# Altium footprint library QFP (~0.8mm Pitch, Square) - Corner Index.PcbLib: 29 footprints (part 2 of 2)
Each footprint in its own frame and in the unit in brackets; x right, y up, seen from the top. Pads: shape width x height; smd on the part's side, far side on the other; paste and mask are expansions set on the pad; w line width, h text height; cw(c..) or ccw(c..) is an arc to the next point about the centre after c.
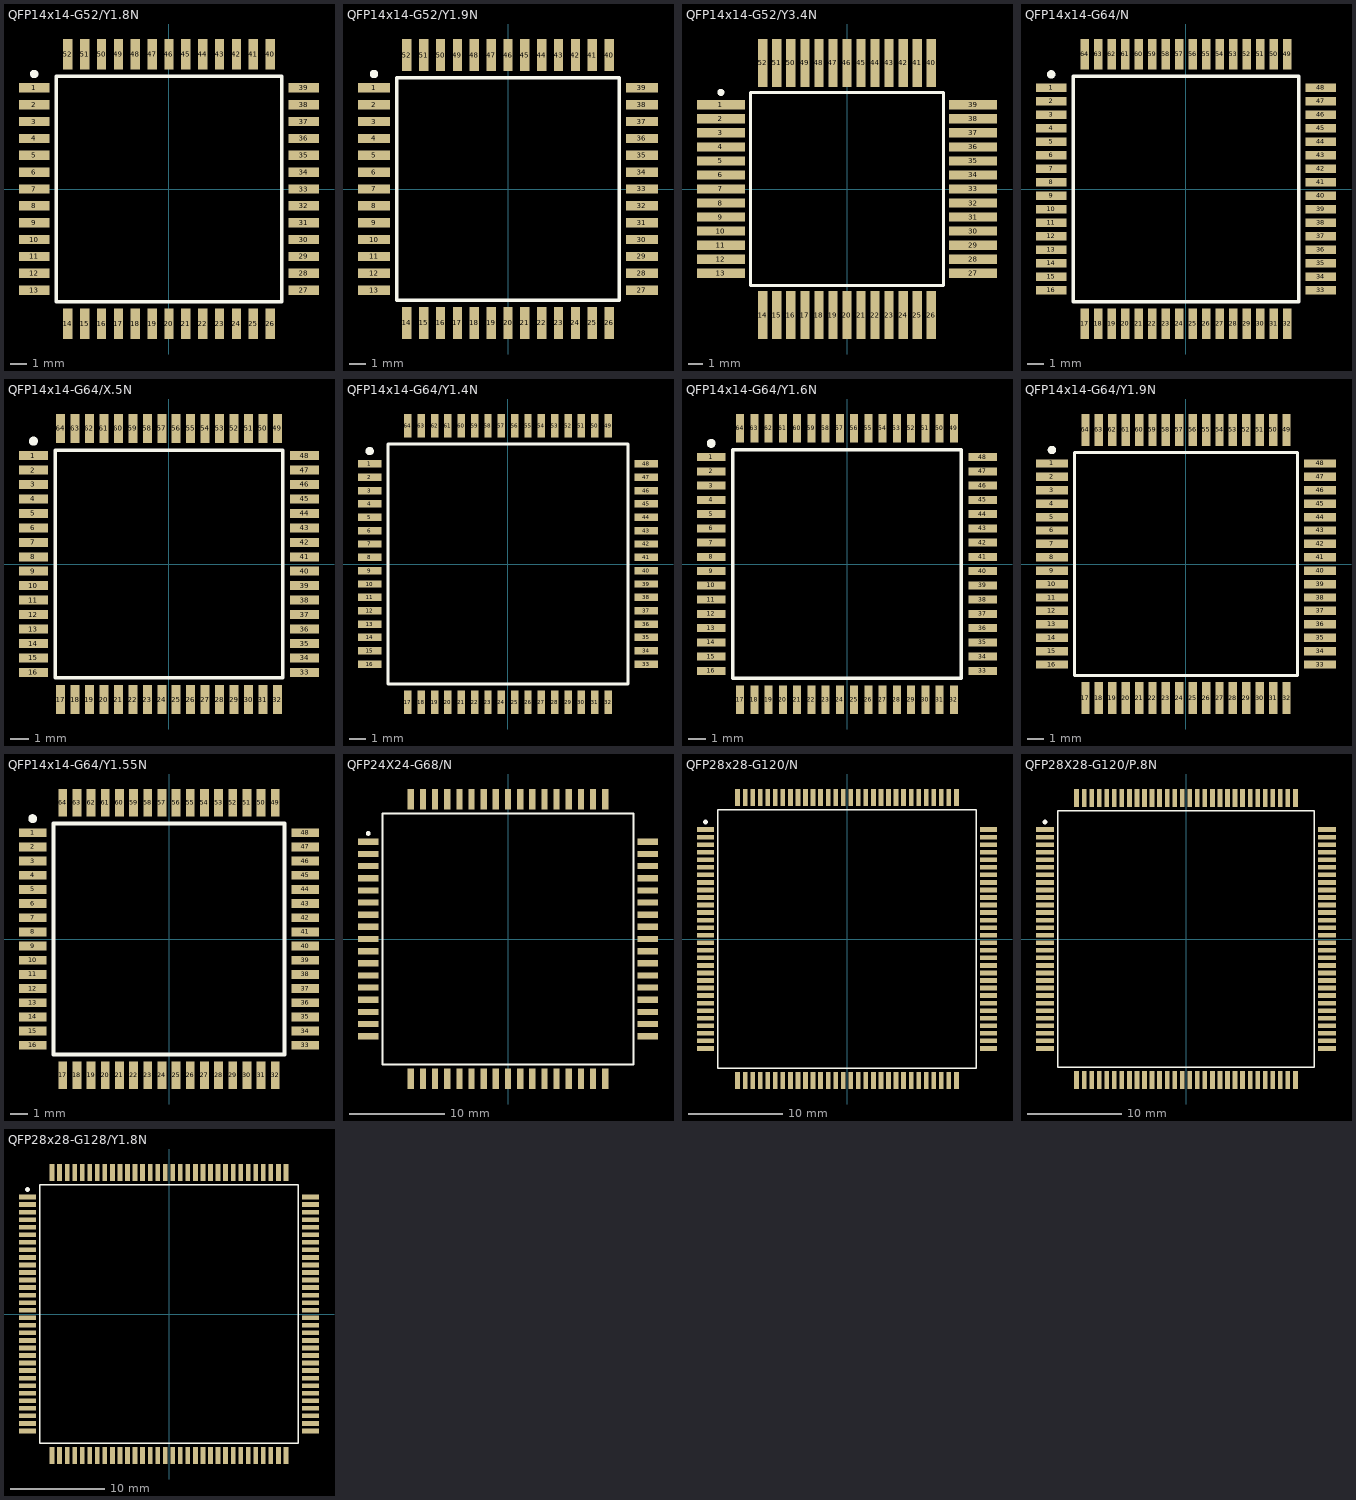
[diagram p1: the footprints below, top view; thin cyan lines are the x and y axes]

## QFP14x14-G52/Y1.8N [mm] "QFP, Ceramic Window; 52 Leads; Body 14 x 14 mm; Pitch 1 mm"
height 3.55
pads (52):
  rect 1.8x0.55 smd: 1(-8,6) 2(-8,5) 3(-8,4) 4(-8,3) 5(-8,2) 6(-8,1) 7(-8,0) 8(-8,-1) 9(-8,-2) 10(-8,-3) 11(-8,-4) 12(-8,-5) 13(-8,-6) 27(8,-6) 28(8,-5) 29(8,-4) 30(8,-3) 31(8,-2) 32(8,-1) 33(8,0) 34(8,1) 35(8,2) 36(8,3) 37(8,4) 38(8,5) 39(8,6)
  rect 0.55x1.8 smd: 14(-6,-8) 15(-5,-8) 16(-4,-8) 17(-3,-8) 18(-2,-8) 19(-1,-8) 20(0,-8) 21(1,-8) 22(2,-8) 23(3,-8) 24(4,-8) 25(5,-8) 26(6,-8) 40(6,8) 41(5,8) 42(4,8) 43(3,8) 44(2,8) 45(1,8) 46(0,8) 47(-1,8) 48(-2,8) 49(-3,8) 50(-4,8) 51(-5,8) 52(-6,8)
Top Overlay:
  circle w0.25: c-8,6.825 r0.125
  lines w0.2: -6.7,-6.7 -6.7,6.7 6.7,6.7 6.7,-6.7 -6.7,-6.7

## QFP14x14-G52/Y1.9N [mm] "QFP; 52 Leads; Body 14 x 14 mm; Pitch 1 mm"
height 3
pads (52):
  rect 1.9x0.55 smd: 1(-7.95,6) 2(-7.95,5) 3(-7.95,4) 4(-7.95,3) 5(-7.95,2) 6(-7.95,1) 7(-7.95,0) 8(-7.95,-1) 9(-7.95,-2) 10(-7.95,-3) 11(-7.95,-4) 12(-7.95,-5) 13(-7.95,-6) 27(7.95,-6) 28(7.95,-5) 29(7.95,-4) 30(7.95,-3) 31(7.95,-2) 32(7.95,-1) 33(7.95,0) 34(7.95,1) 35(7.95,2) 36(7.95,3) 37(7.95,4) 38(7.95,5) 39(7.95,6)
  rect 0.55x1.9 smd: 14(-6,-7.95) 15(-5,-7.95) 16(-4,-7.95) 17(-3,-7.95) 18(-2,-7.95) 19(-1,-7.95) 20(0,-7.95) 21(1,-7.95) 22(2,-7.95) 23(3,-7.95) 24(4,-7.95) 25(5,-7.95) 26(6,-7.95) 40(6,7.95) 41(5,7.95) 42(4,7.95) 43(3,7.95) 44(2,7.95) 45(1,7.95) 46(0,7.95) 47(-1,7.95) 48(-2,7.95) 49(-3,7.95) 50(-4,7.95) 51(-5,7.95) 52(-6,7.95)
Top Overlay:
  circle w0.25: c-7.95,6.825 r0.125
  lines w0.2: -6.6,-6.6 -6.6,6.6 6.6,6.6 6.6,-6.6 -6.6,-6.6

## QFP14x14-G52/Y3.4N [mm] "QFP; 52 Leads; Body 14 x 14 mm; Pitch 1 mm"
height 2.8
pads (52):
  rect 3.4x0.65 smd: 1(-8.975,6) 2(-8.975,5) 3(-8.975,4) 4(-8.975,3) 5(-8.975,2) 6(-8.975,1) 7(-8.975,0) 8(-8.975,-1) 9(-8.975,-2) 10(-8.975,-3) 11(-8.975,-4) 12(-8.975,-5) 13(-8.975,-6) 27(8.975,-6) 28(8.975,-5) 29(8.975,-4) 30(8.975,-3) 31(8.975,-2) 32(8.975,-1) 33(8.975,0) 34(8.975,1) 35(8.975,2) 36(8.975,3) 37(8.975,4) 38(8.975,5) 39(8.975,6)
  rect 0.65x3.4 smd: 14(-6,-8.975) 15(-5,-8.975) 16(-4,-8.975) 17(-3,-8.975) 18(-2,-8.975) 19(-1,-8.975) 20(0,-8.975) 21(1,-8.975) 22(2,-8.975) 23(3,-8.975) 24(4,-8.975) 25(5,-8.975) 26(6,-8.975) 40(6,8.975) 41(5,8.975) 42(4,8.975) 43(3,8.975) 44(2,8.975) 45(1,8.975) 46(0,8.975) 47(-1,8.975) 48(-2,8.975) 49(-3,8.975) 50(-4,8.975) 51(-5,8.975) 52(-6,8.975)
Top Overlay:
  circle w0.25: c-8.975,6.875 r0.125
  lines w0.2: -6.875,-6.875 -6.875,6.875 6.875,6.875 6.875,-6.875 -6.875,-6.875

## QFP14x14-G64/N [mm] "QFP; 64 Leads; Body 14 x 14 mm; Pitch 0.8 mm"
height 2.45
pads (64):
  rect 1.8x0.5 smd: 1(-8,6) 2(-8,5.2) 3(-8,4.4) 4(-8,3.6) 5(-8,2.8) 6(-8,2) 7(-8,1.2) 8(-8,0.4) 9(-8,-0.4) 10(-8,-1.2) 11(-8,-2) 12(-8,-2.8) 13(-8,-3.6) 14(-8,-4.4) 15(-8,-5.2) 16(-8,-6) 33(8,-6) 34(8,-5.2) 35(8,-4.4) 36(8,-3.6) 37(8,-2.8) 38(8,-2) 39(8,-1.2) 40(8,-0.4) 41(8,0.4) 42(8,1.2) 43(8,2) 44(8,2.8) 45(8,3.6) 46(8,4.4) 47(8,5.2) 48(8,6)
  rect 0.5x1.8 smd: 17(-6,-8) 18(-5.2,-8) 19(-4.4,-8) 20(-3.6,-8) 21(-2.8,-8) 22(-2,-8) 23(-1.2,-8) 24(-0.4,-8) 25(0.4,-8) 26(1.2,-8) 27(2,-8) 28(2.8,-8) 29(3.6,-8) 30(4.4,-8) 31(5.2,-8) 32(6,-8) 49(6,8) 50(5.2,8) 51(4.4,8) 52(3.6,8) 53(2.8,8) 54(2,8) 55(1.2,8) 56(0.4,8) 57(-0.4,8) 58(-1.2,8) 59(-2,8) 60(-2.8,8) 61(-3.6,8) 62(-4.4,8) 63(-5.2,8) 64(-6,8)
Top Overlay:
  circle w0.25: c-8,6.8 r0.125
  lines w0.2: -6.7,-6.7 6.7,-6.7 6.7,6.7 -6.7,6.7 -6.7,-6.7

## QFP14x14-G64/X.5N [mm] "QFP; 64 Leads; Body 14 x 14 mm; Pitch 0.8 mm"
height 1.2
pads (64):
  rect 1.6x0.5 smd: 1(-7.5,6) 2(-7.5,5.2) 3(-7.5,4.4) 4(-7.5,3.6) 5(-7.5,2.8) 6(-7.5,2) 7(-7.5,1.2) 8(-7.5,0.4) 9(-7.5,-0.4) 10(-7.5,-1.2) 11(-7.5,-2) 12(-7.5,-2.8) 13(-7.5,-3.6) 14(-7.5,-4.4) 15(-7.5,-5.2) 16(-7.5,-6) 33(7.5,-6) 34(7.5,-5.2) 35(7.5,-4.4) 36(7.5,-3.6) 37(7.5,-2.8) 38(7.5,-2) 39(7.5,-1.2) 40(7.5,-0.4) 41(7.5,0.4) 42(7.5,1.2) 43(7.5,2) 44(7.5,2.8) 45(7.5,3.6) 46(7.5,4.4) 47(7.5,5.2) 48(7.5,6)
  rect 0.5x1.6 smd: 17(-6,-7.5) 18(-5.2,-7.5) 19(-4.4,-7.5) 20(-3.6,-7.5) 21(-2.8,-7.5) 22(-2,-7.5) 23(-1.2,-7.5) 24(-0.4,-7.5) 25(0.4,-7.5) 26(1.2,-7.5) 27(2,-7.5) 28(2.8,-7.5) 29(3.6,-7.5) 30(4.4,-7.5) 31(5.2,-7.5) 32(6,-7.5) 49(6,7.5) 50(5.2,7.5) 51(4.4,7.5) 52(3.6,7.5) 53(2.8,7.5) 54(2,7.5) 55(1.2,7.5) 56(0.4,7.5) 57(-0.4,7.5) 58(-1.2,7.5) 59(-2,7.5) 60(-2.8,7.5) 61(-3.6,7.5) 62(-4.4,7.5) 63(-5.2,7.5) 64(-6,7.5)
Top Overlay:
  circle w0.25: c-7.5,6.8 r0.125
  lines w0.2: -6.3,-6.3 6.3,-6.3 6.3,6.3 -6.3,6.3 -6.3,-6.3

## QFP14x14-G64/Y1.4N [mm] "Ceramic QFP, Cavity Up; 64 Leads; Body 14 x 14 mm"
height 3
pads (64):
  rect 1.4x0.45 smd: 1(-8.3,6) 2(-8.3,5.2) 3(-8.3,4.4) 4(-8.3,3.6) 5(-8.3,2.8) 6(-8.3,2) 7(-8.3,1.2) 8(-8.3,0.4) 9(-8.3,-0.4) 10(-8.3,-1.2) 11(-8.3,-2) 12(-8.3,-2.8) 13(-8.3,-3.6) 14(-8.3,-4.4) 15(-8.3,-5.2) 16(-8.3,-6) 33(8.3,-6) 34(8.3,-5.2) 35(8.3,-4.4) 36(8.3,-3.6) 37(8.3,-2.8) 38(8.3,-2) 39(8.3,-1.2) 40(8.3,-0.4) 41(8.3,0.4) 42(8.3,1.2) 43(8.3,2) 44(8.3,2.8) 45(8.3,3.6) 46(8.3,4.4) 47(8.3,5.2) 48(8.3,6)
  rect 0.45x1.4 smd: 17(-6,-8.3) 18(-5.2,-8.3) 19(-4.4,-8.3) 20(-3.6,-8.3) 21(-2.8,-8.3) 22(-2,-8.3) 23(-1.2,-8.3) 24(-0.4,-8.3) 25(0.4,-8.3) 26(1.2,-8.3) 27(2,-8.3) 28(2.8,-8.3) 29(3.6,-8.3) 30(4.4,-8.3) 31(5.2,-8.3) 32(6,-8.3) 49(6,8.3) 50(5.2,8.3) 51(4.4,8.3) 52(3.6,8.3) 53(2.8,8.3) 54(2,8.3) 55(1.2,8.3) 56(0.4,8.3) 57(-0.4,8.3) 58(-1.2,8.3) 59(-2,8.3) 60(-2.8,8.3) 61(-3.6,8.3) 62(-4.4,8.3) 63(-5.2,8.3) 64(-6,8.3)
Top Overlay:
  circle w0.25: c-8.3,6.775 r0.125
  lines w0.2: -7.2,-7.2 7.2,-7.2 7.2,7.2 -7.2,7.2 -7.2,-7.2

## QFP14x14-G64/Y1.6N [mm] "QFP, Plastic; 64 Leads; Body 14 x 14 mm; Pitch 0.8 mm"
height 1.6
pads (64):
  rect 1.6x0.45 smd: 1(-7.625,6) 2(-7.625,5.2) 3(-7.625,4.4) 4(-7.625,3.6) 5(-7.625,2.8) 6(-7.625,2) 7(-7.625,1.2) 8(-7.625,0.4) 9(-7.625,-0.4) 10(-7.625,-1.2) 11(-7.625,-2) 12(-7.625,-2.8) 13(-7.625,-3.6) 14(-7.625,-4.4) 15(-7.625,-5.2) 16(-7.625,-6) 33(7.625,-6) 34(7.625,-5.2) 35(7.625,-4.4) 36(7.625,-3.6) 37(7.625,-2.8) 38(7.625,-2) 39(7.625,-1.2) 40(7.625,-0.4) 41(7.625,0.4) 42(7.625,1.2) 43(7.625,2) 44(7.625,2.8) 45(7.625,3.6) 46(7.625,4.4) 47(7.625,5.2) 48(7.625,6)
  rect 0.45x1.6 smd: 17(-6,-7.625) 18(-5.2,-7.625) 19(-4.4,-7.625) 20(-3.6,-7.625) 21(-2.8,-7.625) 22(-2,-7.625) 23(-1.2,-7.625) 24(-0.4,-7.625) 25(0.4,-7.625) 26(1.2,-7.625) 27(2,-7.625) 28(2.8,-7.625) 29(3.6,-7.625) 30(4.4,-7.625) 31(5.2,-7.625) 32(6,-7.625) 49(6,7.625) 50(5.2,7.625) 51(4.4,7.625) 52(3.6,7.625) 53(2.8,7.625) 54(2,7.625) 55(1.2,7.625) 56(0.4,7.625) 57(-0.4,7.625) 58(-1.2,7.625) 59(-2,7.625) 60(-2.8,7.625) 61(-3.6,7.625) 62(-4.4,7.625) 63(-5.2,7.625) 64(-6,7.625)
Top Overlay:
  circle w0.25: c-7.625,6.775 r0.125
  lines w0.2: -6.425,-6.425 6.425,-6.425 6.425,6.425 -6.425,6.425 -6.425,-6.425

## QFP14x14-G64/Y1.9N [mm] "QFP; 64 Leads; Body 14 x 14 mm; Pitch 0.8 mm"
height 3.15
pads (64):
  rect 1.9x0.5 smd: 1(-8,6) 2(-8,5.2) 3(-8,4.4) 4(-8,3.6) 5(-8,2.8) 6(-8,2) 7(-8,1.2) 8(-8,0.4) 9(-8,-0.4) 10(-8,-1.2) 11(-8,-2) 12(-8,-2.8) 13(-8,-3.6) 14(-8,-4.4) 15(-8,-5.2) 16(-8,-6) 33(8,-6) 34(8,-5.2) 35(8,-4.4) 36(8,-3.6) 37(8,-2.8) 38(8,-2) 39(8,-1.2) 40(8,-0.4) 41(8,0.4) 42(8,1.2) 43(8,2) 44(8,2.8) 45(8,3.6) 46(8,4.4) 47(8,5.2) 48(8,6)
  rect 0.5x1.9 smd: 17(-6,-8) 18(-5.2,-8) 19(-4.4,-8) 20(-3.6,-8) 21(-2.8,-8) 22(-2,-8) 23(-1.2,-8) 24(-0.4,-8) 25(0.4,-8) 26(1.2,-8) 27(2,-8) 28(2.8,-8) 29(3.6,-8) 30(4.4,-8) 31(5.2,-8) 32(6,-8) 49(6,8) 50(5.2,8) 51(4.4,8) 52(3.6,8) 53(2.8,8) 54(2,8) 55(1.2,8) 56(0.4,8) 57(-0.4,8) 58(-1.2,8) 59(-2,8) 60(-2.8,8) 61(-3.6,8) 62(-4.4,8) 63(-5.2,8) 64(-6,8)
Top Overlay:
  circle w0.25: c-8,6.8 r0.125
  lines w0.2: -6.65,-6.65 6.65,-6.65 6.65,6.65 -6.65,6.65 -6.65,-6.65

## QFP14x14-G64/Y1.55N [mm] "QFP; 64 Leads; Body 14 x 14 mm; Pitch 0.8 mm"
height 1.6
pads (64):
  rect 1.55x0.5 smd: 1(-7.7,6) 2(-7.7,5.2) 3(-7.7,4.4) 4(-7.7,3.6) 5(-7.7,2.8) 6(-7.7,2) 7(-7.7,1.2) 8(-7.7,0.4) 9(-7.7,-0.4) 10(-7.7,-1.2) 11(-7.7,-2) 12(-7.7,-2.8) 13(-7.7,-3.6) 14(-7.7,-4.4) 15(-7.7,-5.2) 16(-7.7,-6) 33(7.7,-6) 34(7.7,-5.2) 35(7.7,-4.4) 36(7.7,-3.6) 37(7.7,-2.8) 38(7.7,-2) 39(7.7,-1.2) 40(7.7,-0.4) 41(7.7,0.4) 42(7.7,1.2) 43(7.7,2) 44(7.7,2.8) 45(7.7,3.6) 46(7.7,4.4) 47(7.7,5.2) 48(7.7,6)
  rect 0.5x1.55 smd: 17(-6,-7.7) 18(-5.2,-7.7) 19(-4.4,-7.7) 20(-3.6,-7.7) 21(-2.8,-7.7) 22(-2,-7.7) 23(-1.2,-7.7) 24(-0.4,-7.7) 25(0.4,-7.7) 26(1.2,-7.7) 27(2,-7.7) 28(2.8,-7.7) 29(3.6,-7.7) 30(4.4,-7.7) 31(5.2,-7.7) 32(6,-7.7) 49(6,7.7) 50(5.2,7.7) 51(4.4,7.7) 52(3.6,7.7) 53(2.8,7.7) 54(2,7.7) 55(1.2,7.7) 56(0.4,7.7) 57(-0.4,7.7) 58(-1.2,7.7) 59(-2,7.7) 60(-2.8,7.7) 61(-3.6,7.7) 62(-4.4,7.7) 63(-5.2,7.7) 64(-6,7.7)
Top Overlay:
  circle w0.25: c-7.7,6.8 r0.125
  lines w0.2: -6.525,-6.525 6.525,-6.525 6.525,6.525 -6.525,6.525 -6.525,-6.525

## QFP24X24-G68/N [mm] "QFP; 68 Leads; Body 24 x 24 mm; Pitch 1.27 mm"
height 4.81
pads (68):
  rect 2.15x0.65 smd: 1(-14.6,10.16) 2(-14.6,8.89) 3(-14.6,7.62) 4(-14.6,6.35) 5(-14.6,5.08) 6(-14.6,3.81) 7(-14.6,2.54) 8(-14.6,1.27) 9(-14.6,0) 10(-14.6,-1.27) 11(-14.6,-2.54) 12(-14.6,-3.81) 13(-14.6,-5.08) 14(-14.6,-6.35) 15(-14.6,-7.62) 16(-14.6,-8.89) 17(-14.6,-10.16) 35(14.6,-10.16) 36(14.6,-8.89) 37(14.6,-7.62) 38(14.6,-6.35) 39(14.6,-5.08) 40(14.6,-3.81) 41(14.6,-2.54) 42(14.6,-1.27) 43(14.6,0) 44(14.6,1.27) 45(14.6,2.54) 46(14.6,3.81) 47(14.6,5.08) 48(14.6,6.35) 49(14.6,7.62) 50(14.6,8.89) 51(14.6,10.16)
  rect 0.65x2.15 smd: 18(-10.16,-14.6) 19(-8.89,-14.6) 20(-7.62,-14.6) 21(-6.35,-14.6) 22(-5.08,-14.6) 23(-3.81,-14.6) 24(-2.54,-14.6) 25(-1.27,-14.6) 26(0,-14.6) 27(1.27,-14.6) 28(2.54,-14.6) 29(3.81,-14.6) 30(5.08,-14.6) 31(6.35,-14.6) 32(7.62,-14.6) 33(8.89,-14.6) 34(10.16,-14.6) 52(10.16,14.6) 53(8.89,14.6) 54(7.62,14.6) 55(6.35,14.6) 56(5.08,14.6) 57(3.81,14.6) 58(2.54,14.6) 59(1.27,14.6) 60(0,14.6) 61(-1.27,14.6) 62(-2.54,14.6) 63(-3.81,14.6) 64(-5.08,14.6) 65(-6.35,14.6) 66(-7.62,14.6) 67(-8.89,14.6) 68(-10.16,14.6)
Top Overlay:
  circle w0.25: c-14.6,11.035 r0.125
  lines w0.2: -13.125,-13.125 13.125,-13.125 13.125,13.125 -13.125,13.125 -13.125,-13.125

## QFP28x28-G120/N [mm] "QFP; 120 Leads; Body 28 x 28 mm; Pitch 0.8 mm"
height 4.07
pads (120):
  rect 1.8x0.5 smd: 1(-15,11.6) 2(-15,10.8) 3(-15,10) 4(-15,9.2) 5(-15,8.4) 6(-15,7.6) 7(-15,6.8) 8(-15,6) 9(-15,5.2) 10(-15,4.4) 11(-15,3.6) 12(-15,2.8) 13(-15,2) 14(-15,1.2) 15(-15,0.4) 16(-15,-0.4) 17(-15,-1.2) 18(-15,-2) 19(-15,-2.8) 20(-15,-3.6) 21(-15,-4.4) 22(-15,-5.2) 23(-15,-6) 24(-15,-6.8) 25(-15,-7.6) 26(-15,-8.4) 27(-15,-9.2) 28(-15,-10) 29(-15,-10.8) 30(-15,-11.6) 61(15,-11.6) 62(15,-10.8) 63(15,-10) 64(15,-9.2) 65(15,-8.4) 66(15,-7.6) 67(15,-6.8) 68(15,-6) 69(15,-5.2) 70(15,-4.4) 71(15,-3.6) 72(15,-2.8) 73(15,-2) 74(15,-1.2) 75(15,-0.4) 76(15,0.4) 77(15,1.2) 78(15,2) 79(15,2.8) 80(15,3.6) 81(15,4.4) 82(15,5.2) 83(15,6) 84(15,6.8) 85(15,7.6) 86(15,8.4) 87(15,9.2) 88(15,10) 89(15,10.8) 90(15,11.6)
  rect 0.5x1.8 smd: 31(-11.6,-15) 32(-10.8,-15) 33(-10,-15) 34(-9.2,-15) 35(-8.4,-15) 36(-7.6,-15) 37(-6.8,-15) 38(-6,-15) 39(-5.2,-15) 40(-4.4,-15) 41(-3.6,-15) 42(-2.8,-15) 43(-2,-15) 44(-1.2,-15) 45(-0.4,-15) 46(0.4,-15) 47(1.2,-15) 48(2,-15) 49(2.8,-15) 50(3.6,-15) 51(4.4,-15) 52(5.2,-15) 53(6,-15) 54(6.8,-15) 55(7.6,-15) 56(8.4,-15) 57(9.2,-15) 58(10,-15) 59(10.8,-15) 60(11.6,-15) 91(11.6,15) 92(10.8,15) 93(10,15) 94(9.2,15) 95(8.4,15) 96(7.6,15) 97(6.8,15) 98(6,15) 99(5.2,15) 100(4.4,15) 101(3.6,15) 102(2.8,15) 103(2,15) 104(1.2,15) 105(0.4,15) 106(-0.4,15) 107(-1.2,15) 108(-2,15) 109(-2.8,15) 110(-3.6,15) 111(-4.4,15) 112(-5.2,15) 113(-6,15) 114(-6.8,15) 115(-7.6,15) 116(-8.4,15) 117(-9.2,15) 118(-10,15) 119(-10.8,15) 120(-11.6,15)
Top Overlay:
  circle w0.25: c-15,12.4 r0.125
  lines w0.2: -13.7,-13.7 13.7,-13.7 13.7,13.7 -13.7,13.7 -13.7,-13.7

## QFP28X28-G120/P.8N [mm]
pads (120):
  rect 1.9x0.5 smd: 1(-14.95,11.6) 2(-14.95,10.8) 3(-14.95,10) 4(-14.95,9.2) 5(-14.95,8.4) 6(-14.95,7.6) 7(-14.95,6.8) 8(-14.95,6) 9(-14.95,5.2) 10(-14.95,4.4) 11(-14.95,3.6) 12(-14.95,2.8) 13(-14.95,2) 14(-14.95,1.2) 15(-14.95,0.4) 16(-14.95,-0.4) 17(-14.95,-1.2) 18(-14.95,-2) 19(-14.95,-2.8) 20(-14.95,-3.6) 21(-14.95,-4.4) 22(-14.95,-5.2) 23(-14.95,-6) 24(-14.95,-6.8) 25(-14.95,-7.6) 26(-14.95,-8.4) 27(-14.95,-9.2) 28(-14.95,-10) 29(-14.95,-10.8) 30(-14.95,-11.6) 61(14.95,-11.6) 62(14.95,-10.8) 63(14.95,-10) 64(14.95,-9.2) 65(14.95,-8.4) 66(14.95,-7.6) 67(14.95,-6.8) 68(14.95,-6) 69(14.95,-5.2) 70(14.95,-4.4) 71(14.95,-3.6) 72(14.95,-2.8) 73(14.95,-2) 74(14.95,-1.2) 75(14.95,-0.4) 76(14.95,0.4) 77(14.95,1.2) 78(14.95,2) 79(14.95,2.8) 80(14.95,3.6) 81(14.95,4.4) 82(14.95,5.2) 83(14.95,6) 84(14.95,6.8) 85(14.95,7.6) 86(14.95,8.4) 87(14.95,9.2) 88(14.95,10) 89(14.95,10.8) 90(14.95,11.6)
  rect 0.5x1.9 smd: 31(-11.6,-14.95) 32(-10.8,-14.95) 33(-10,-14.95) 34(-9.2,-14.95) 35(-8.4,-14.95) 36(-7.6,-14.95) 37(-6.8,-14.95) 38(-6,-14.95) 39(-5.2,-14.95) 40(-4.4,-14.95) 41(-3.6,-14.95) 42(-2.8,-14.95) 43(-2,-14.95) 44(-1.2,-14.95) 45(-0.4,-14.95) 46(0.4,-14.95) 47(1.2,-14.95) 48(2,-14.95) 49(2.8,-14.95) 50(3.6,-14.95) 51(4.4,-14.95) 52(5.2,-14.95) 53(6,-14.95) 54(6.8,-14.95) 55(7.6,-14.95) 56(8.4,-14.95) 57(9.2,-14.95) 58(10,-14.95) 59(10.8,-14.95) 60(11.6,-14.95) 91(11.6,14.95) 92(10.8,14.95) 93(10,14.95) 94(9.2,14.95) 95(8.4,14.95) 96(7.6,14.95) 97(6.8,14.95) 98(6,14.95) 99(5.2,14.95) 100(4.4,14.95) 101(3.6,14.95) 102(2.8,14.95) 103(2,14.95) 104(1.2,14.95) 105(0.4,14.95) 106(-0.4,14.95) 107(-1.2,14.95) 108(-2,14.95) 109(-2.8,14.95) 110(-3.6,14.95) 111(-4.4,14.95) 112(-5.2,14.95) 113(-6,14.95) 114(-6.8,14.95) 115(-7.6,14.95) 116(-8.4,14.95) 117(-9.2,14.95) 118(-10,14.95) 119(-10.8,14.95) 120(-11.6,14.95)
Top Overlay:
  circle w0.25: c-14.95,12.4 r0.125
  lines w0.2: -13.6,-13.6 13.6,-13.6 13.6,13.6 -13.6,13.6 -13.6,-13.6

## QFP28x28-G128/Y1.8N [mm] "QFP; 128 Leads; Body 28 x 28 mm; Pitch 0.8 mm"
height 4.07
pads (128):
  rect 1.8x0.5 smd: 1(-15,12.4) 2(-15,11.6) 3(-15,10.8) 4(-15,10) 5(-15,9.2) 6(-15,8.4) 7(-15,7.6) 8(-15,6.8) 9(-15,6) 10(-15,5.2) 11(-15,4.4) 12(-15,3.6) 13(-15,2.8) 14(-15,2) 15(-15,1.2) 16(-15,0.4) 17(-15,-0.4) 18(-15,-1.2) 19(-15,-2) 20(-15,-2.8) 21(-15,-3.6) 22(-15,-4.4) 23(-15,-5.2) 24(-15,-6) 25(-15,-6.8) 26(-15,-7.6) 27(-15,-8.4) 28(-15,-9.2) 29(-15,-10) 30(-15,-10.8) 31(-15,-11.6) 32(-15,-12.4) 65(15,-12.4) 66(15,-11.6) 67(15,-10.8) 68(15,-10) 69(15,-9.2) 70(15,-8.4) 71(15,-7.6) 72(15,-6.8) 73(15,-6) 74(15,-5.2) 75(15,-4.4) 76(15,-3.6) 77(15,-2.8) 78(15,-2) 79(15,-1.2) 80(15,-0.4) 81(15,0.4) 82(15,1.2) 83(15,2) 84(15,2.8) 85(15,3.6) 86(15,4.4) 87(15,5.2) 88(15,6) 89(15,6.8) 90(15,7.6) 91(15,8.4) 92(15,9.2) 93(15,10) 94(15,10.8) 95(15,11.6) 96(15,12.4)
  rect 0.5x1.8 smd: 33(-12.4,-15) 34(-11.6,-15) 35(-10.8,-15) 36(-10,-15) 37(-9.2,-15) 38(-8.4,-15) 39(-7.6,-15) 40(-6.8,-15) 41(-6,-15) 42(-5.2,-15) 43(-4.4,-15) 44(-3.6,-15) 45(-2.8,-15) 46(-2,-15) 47(-1.2,-15) 48(-0.4,-15) 49(0.4,-15) 50(1.2,-15) 51(2,-15) 52(2.8,-15) 53(3.6,-15) 54(4.4,-15) 55(5.2,-15) 56(6,-15) 57(6.8,-15) 58(7.6,-15) 59(8.4,-15) 60(9.2,-15) 61(10,-15) 62(10.8,-15) 63(11.6,-15) 64(12.4,-15) 97(12.4,15) 98(11.6,15) 99(10.8,15) 100(10,15) 101(9.2,15) 102(8.4,15) 103(7.6,15) 104(6.8,15) 105(6,15) 106(5.2,15) 107(4.4,15) 108(3.6,15) 109(2.8,15) 110(2,15) 111(1.2,15) 112(0.4,15) 113(-0.4,15) 114(-1.2,15) 115(-2,15) 116(-2.8,15) 117(-3.6,15) 118(-4.4,15) 119(-5.2,15) 120(-6,15) 121(-6.8,15) 122(-7.6,15) 123(-8.4,15) 124(-9.2,15) 125(-10,15) 126(-10.8,15) 127(-11.6,15) 128(-12.4,15)
Top Overlay:
  circle w0.25: c-15,13.2 r0.125
  lines w0.2: -13.7,-13.7 13.7,-13.7 13.7,13.7 -13.7,13.7 -13.7,-13.7